# EAGLE library part WL-SFTW_3528_PLCC6 (library WL-SFTW)
WL-SFTW SMT Full-color TOP LED Waterclear Characteristics Low energy consumption High reliability Low current requirement Fast switching No UV/IR radiation High brightness RGB individual control Compact package outline LED with Black surface Applications Flash light Switch indicators Equipment indicators Accent and decorative lighting Electronic signage Video displays Backlight for LCDs, PDAs and TVs Oven, microwave Street lighting Ideal for lateral coupling in light guides <https://www.we-online.com/catalog/media/o14903v209%20Family_WL-SFTW-neu.jpg> Details see: www.we-online.com/catalog/WL-SFTW <www.we-online.com/catalog/WL-SFTW/?utm_source=eagle_model&utm_medium=description_link&utm_campaign=eisos_eagle> Updated by Ella 2022-06-20 2022(C) Wurth Elektronik
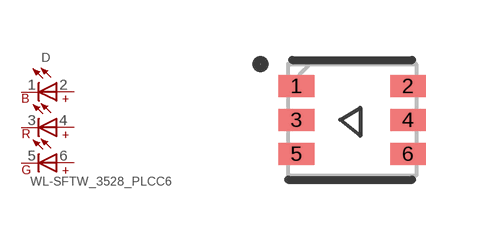
[diagram p1: symbol with the pads of WL-SFTW_3528_PLCC6; footprint WL-SFTW_3528_PLCC6]

Designator prefix D

## WL-SFTW_3528_PLCC6_150352M173300 (CHIP-TECHNOLOGY: AlInGaP + InGaN; DATASHEET-URL: https://www.we-online.com/redexpert/spec/150352M173300?ae; DOMINANT-WAVELENGTH: 625nm@Red / 520nm@Green / 470nm@Blue; EMITTING-COLOR: Red & Green & Blue; FORWARD-VOLTAGE: 2V@Red / 3.2V@Green / 3.2V@Blue; LUMINOUS-INTENSITY: 750nm@Red / 1700mcd@Green / 400mcd@Blue; MOUNT: SMT; PART-NUMBER: 150352M173300; PEAK-WAVELENGTH: 635nm@Red / 515nm@Green / 465nm@Blue; VALUE: 150352M173300; VIEWING-ANGLE: 120°)  [WL-SFTW_3528_PLCC6]
1  B-  pas
2  B+  pas
3  R-  pas
4  R+  pas
5  G-  pas
6  G+  pas

## Footprint WL-SFTW_3528_PLCC6 (pad centres in mm)
WL-SFTW SMT Full-color TOP LED Waterclear, Size:3528, SMT, 6pins 3.5x2.8x1.9mm(LXWXH)
smd 0.89 x 0.55: 1 -1.395,0.85; 2 1.395,0.85; 3 -1.395,0; 4 1.395,0; 5 -1.395,-0.85; 6 1.395,-0.85